# Altium footprint library ADC0820CCN&plus_.PcbLib: 1 footprints
Each footprint in its own frame and in the unit in brackets; x right, y up, seen from the top. Pads: shape width x height; smd on the part's side, far side on the other; paste and mask are expansions set on the pad; w line width, h text height; cw(c..) or ccw(c..) is an arc to the next point about the centre after c.
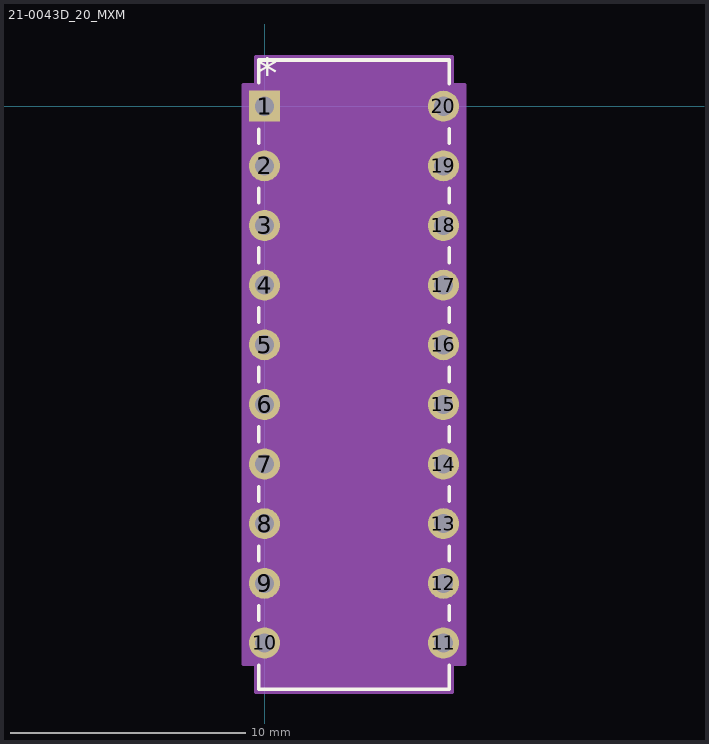
[diagram p0: the footprint, top view; thin cyan lines are the x and y axes]

## 21-0043D_20_MXM [mil]
pads (20):
  rect 52x52 / inner round 60 / far side rect 52x52 hole 32 paste-26 mask+0: 1(0,0)
  round 52 / inner round 60 / far side round 52 hole 32 paste-26 mask+0: 2(0,-100) 3(0,-200) 4(0,-300) 5(0,-400) 6(0,-500) 7(0,-600) 8(0,-700) 9(0,-800) 10(0,-900) 11(300,-900) 12(300,-800) 13(300,-700) 14(300,-600) 15(300,-500) 16(300,-400) 17(300,-300) 18(300,-200) 19(300,-100) 20(300,0)
Top Overlay:
  lines w6: -10,-937.8 -10,-977.5 310,-977.5 310,-937.8 ; -10,-862.2 -10,-837.8 ; -10,-762.2 -10,-737.8 ; -10,-662.2 -10,-637.8 ; -10,-562.2 -10,-537.8 ; -10,-462.2 -10,-437.8 ; -10,-362.2 -10,-337.8 ; -10,-262.2 -10,-237.8 ; -10,-162.2 -10,-137.8 ; -10,-62.2 -10,-39.1 ; -10,39.1 -10,77.5 310,77.5 310,37.8 ; 310,-862.2 310,-837.8 ; 310,-762.2 310,-737.8 ; 310,-662.2 310,-637.8 ; 310,-562.2 310,-537.8 ; 310,-462.2 310,-437.8 ; 310,-362.2 310,-337.8 ; 310,-262.2 310,-237.8 ; 310,-162.2 310,-137.8 ; 310,-62.2 310,-37.8
  text "*" at -12.5,31 h50
Mechanical 13:
  lines w0: 138,72.5 ccw(c150,72.5) 162,72.5
  lines w1: -16,-916 -16,-884 -5,-884 -5,-916 -16,-916 ; -16,-816 -16,-784 -5,-784 -5,-816 -16,-816 ; -16,-716 -16,-684 -5,-684 -5,-716 -16,-716 ; -16,-616 -16,-584 -5,-584 -5,-616 -16,-616 ; -16,-516 -16,-484 -5,-484 -5,-516 -16,-516 ; -16,-416 -16,-384 -5,-384 -5,-416 -16,-416 ; -16,-316 -16,-284 -5,-284 -5,-316 -16,-316 ; -16,-216 -16,-184 -5,-184 -5,-216 -16,-216 ; -16,-116 -16,-84 -5,-84 -5,-116 -16,-116 ; -16,-16 -16,16 -5,16 -5,-16 -16,-16 ; -5,-972.5 305,-972.5 305,72.5 -5,72.5 -5,-972.5 ; 305,-916 305,-884 316,-884 316,-916 305,-916 ; 305,-816 305,-784 316,-784 316,-816 305,-816 ; 305,-716 305,-684 316,-684 316,-716 305,-716 ; 305,-616 305,-584 316,-584 316,-616 305,-616 ; 305,-516 305,-484 316,-484 316,-516 305,-516 ; 305,-416 305,-384 316,-384 316,-416 305,-416 ; 305,-316 305,-284 316,-284 316,-316 305,-316 ; 305,-216 305,-184 316,-184 316,-216 305,-216 ; 305,-116 305,-84 316,-84 316,-116 305,-116 ; 305,-16 305,16 316,16 316,-16 305,-16
  text "*" at -7.5,-25 h50
Mechanical 15:
  region: 315,-936 336,-936 336,36 315,36 315,82.5 -15,82.5 -15,36 -36,36 -36,-936 -15,-936 -15,-982.5 315,-982.5
  lines w6: -36,-936 -36,36 -15,36 -15,82.5 315,82.5 315,36 336,36 336,-936 315,-936 315,-982.5 -15,-982.5 -15,-936 -36,-936
3D body "21-0043D_20_MXM.step": height 185.12, standoff -100, extent -5,-972.52 309.61,72.52